# Altium schematic symbol library REG LIN POS ADJ.Schlib: 1 symbol
Pins are listed as number, name and electrical type; pins without a type are passive.

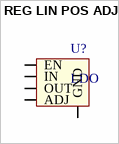
[diagram p0: symbol REG LIN POS ADJ]

## REG LIN POS ADJ
designator U?, comment LDO
Linear Voltage Regulator IC  1 Output  500mA 8-SOIC
pins: ADJ, EN, GND, IN, OUT